# EAGLE library part RT8298 (library Custom_old)
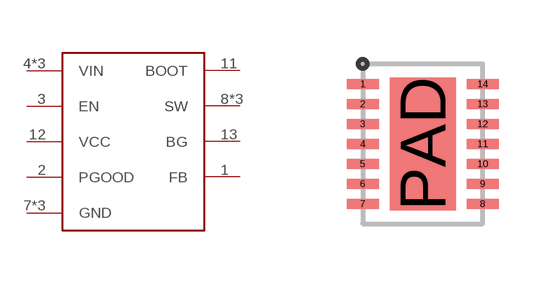
[diagram p7: symbol with the pads of DFN12_4X3; footprint DFN12_4X3]

Designator prefix -

## RT8298  [DFN12_4X3]
1  FB
2  PGOOD
3  EN
4  VIN
5  VIN
6  VIN
7  GND
8  SW
9  SW
10  SW
11  BOOT
12  VCC
13  BG
14  GND
PAD  GND

## Footprint DFN12_4X3 (pad centres in mm)
smd 0.8 x 0.25: 1 -1.5,1.5; 2 -1.5,1; 3 -1.5,0.5; 4 -1.5,0; 5 -1.5,-0.5; 6 -1.5,-1; 7 -1.5,-1.5; 8 1.5,-1.5; 9 1.5,-1; 10 1.5,-0.5; 11 1.5,0; 12 1.5,0.5; 13 1.5,1; 14 1.5,1.5
smd 1.65 x 3.325: PAD 0,0